# EAGLE library part CONN,2X5 (library QuantumOptics)
Connector, 2 rows of 5 pins, straight or right angle
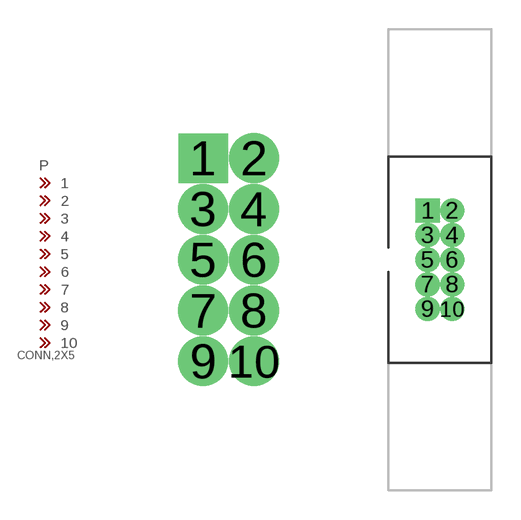
[diagram p207: symbol with the pads of CONN,2X5(50MIL); footprints CONN,2X5(50MIL), CONN,2X5(50MIL)W/EJECT]

Designator prefix P

## CONN,2X5-50MIL  [CONN,2X5(50MIL)]
1  1
2  2
3  3
4  4
5  5
6  6
7  7
8  8
9  9
10  10

## CONN,2X5-50MIL_EJECT  [CONN,2X5(50MIL)W/EJECT]
Pads as for CONN,2X5(50MIL)

## Footprint CONN,2X5(50MIL) (pad centres in mm)
Connector, 2 rows of 5 pins, straight or right angle, such as Sullins GRPB052MWCN-RC (0.050"). Need 6m" trace and space.
drill 0.737 pad 1.09 square: 1 0,0
drill 0.737 pad 1.09: 2 1.27,0; 3 0,-1.27; 4 1.27,-1.27; 5 0,-2.54; 6 1.27,-2.54; 7 0,-3.81; 8 1.27,-3.81; 9 0,-5.08; 10 1.27,-5.08

## Footprint CONN,2X5(50MIL)W/EJECT (pad centres in mm)
Connector, 2 rows of 5 pins, straight through with eject tabs, such as 3M 45210-620230.
drill 0.737 pad 1.09 square: 1 0,0
drill 0.737 pad 1.09: 2 1.27,0; 3 0,-1.27; 4 1.27,-1.27; 5 0,-2.54; 6 1.27,-2.54; 7 0,-3.81; 8 1.27,-3.81; 9 0,-5.08; 10 1.27,-5.08